# Altium schematic symbol library ISO6441.SchLib: 1 symbol
Pins are listed as number, name and electrical type; pins without a type are passive.

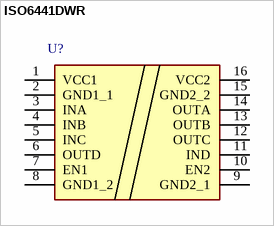
[diagram p0: symbol ISO6441DWR]

## ISO6441DWR
designator U?
pins: 1 VCC1, 2 GND1_1, 3 INA, 4 INB, 5 INC, 6 OUTD, 7 EN1, 8 GND1_2, 9 GND2_1, 10 EN2, 11 IND, 12 OUTC, 13 OUTB, 14 OUTA, 15 GND2_2, 16 VCC2